# EAGLE library part DIP-BLACK-FEMALE-HEADER-VERT(2X6P-2.0) (library Seeed-OPL-Connector)
320030022
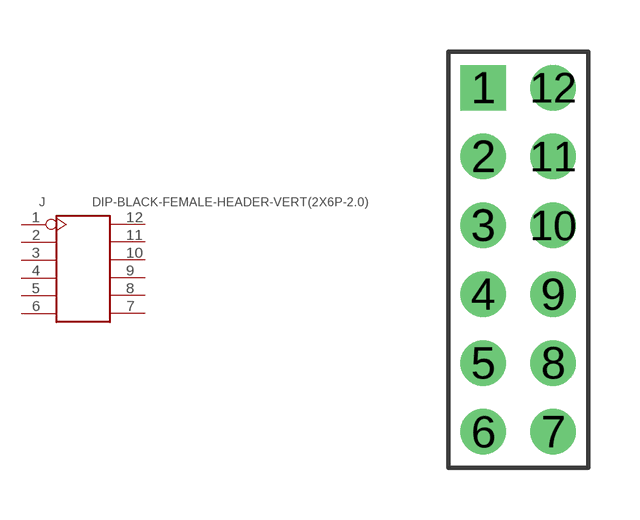
[diagram p91: symbol with the pads of H2X6-2.0; footprint H2X6-2.0]

Designator prefix J

## DIP-BLACK-FEMALE-HEADER-VERT(2X6P-2.0) (VALUE: 2x6p-2.0)  [H2X6-2.0]
1  1
2  2
3  3
4  4
5  5
6  6
7  7
8  8
9  9
10  10
11  11
12  12

## Footprint H2X6-2.0 (pad centres in mm)
drill 0.813 pad 1.27 square: 1 -1.016,5
drill 0.813 pad 1.27: 2 -1.016,3; 3 -1.016,1; 4 -1.016,-1; 5 -1.016,-3; 6 -1.016,-5; 7 1.016,-5; 8 1.016,-3; 9 1.016,-1; 10 1.016,1; 11 1.016,3; 12 1.016,5